# EAGLE library part BM14B-BREAKOUT (library BM14B(0.8)-24DS-0.4V_pinout)
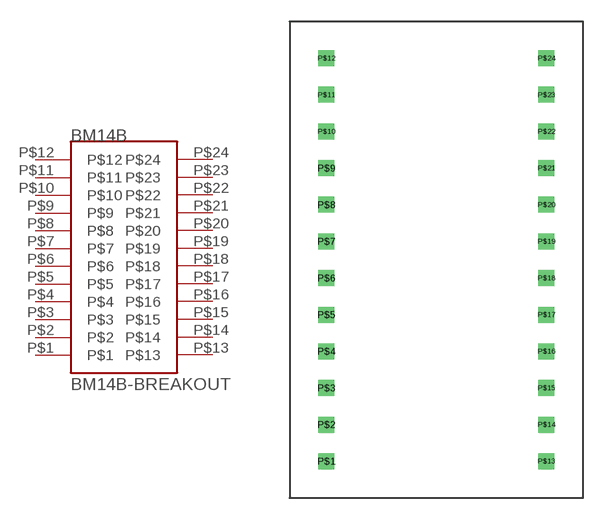
[diagram p2: symbol with the pads of BM14B-BREAKOUT; footprint BM14B-BREAKOUT]

Designator prefix BM14B

## BM14B-BREAKOUT  [BM14B-BREAKOUT]
P$1  P$1
P$2  P$2
P$3  P$3
P$4  P$4
P$5  P$5
P$6  P$6
P$7  P$7
P$8  P$8
P$9  P$9
P$10  P$10
P$11  P$11
P$12  P$12
P$13  P$13
P$14  P$14
P$15  P$15
P$16  P$16
P$17  P$17
P$18  P$18
P$19  P$19
P$20  P$20
P$21  P$21
P$22  P$22
P$23  P$23
P$24  P$24

## Footprint BM14B-BREAKOUT (pad centres in mm)
drill 0.6 square: P$1 -7.62,-12.7; P$2 -7.62,-10.16; P$3 -7.62,-7.62; P$4 -7.62,-5.08; P$5 -7.62,-2.54; P$6 -7.62,0; P$7 -7.62,2.54; P$8 -7.62,5.08; P$9 -7.62,7.62; P$10 -7.62,10.16; P$11 -7.62,12.7; P$12 -7.62,15.24; P$13 7.62,-12.7; P$14 7.62,-10.16; P$15 7.62,-7.62; P$16 7.62,-5.08; P$17 7.62,-2.54; P$18 7.62,0; P$19 7.62,2.54; P$20 7.62,5.08; P$21 7.62,7.62; P$22 7.62,10.16; P$23 7.62,12.7; P$24 7.62,15.24